# Altium footprint library SMD-SOTxx.PcbLib: 35 footprints (part 3 of 3)
Each footprint in its own frame and in the unit in brackets; x right, y up, seen from the top. Pads: shape width x height; smd on the part's side, far side on the other; paste and mask are expansions set on the pad; w line width, h text height; cw(c..) or ccw(c..) is an arc to the next point about the centre after c.
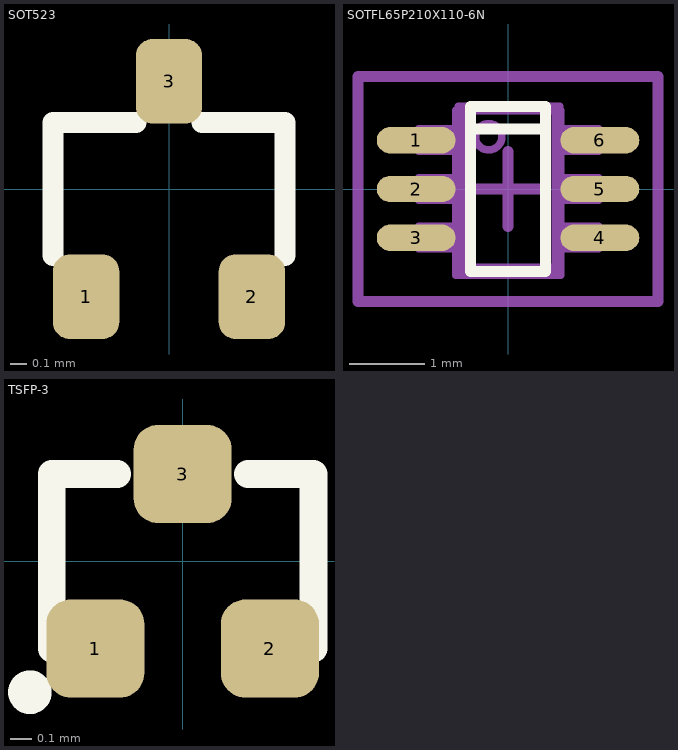
[diagram p2: the footprints below, top view; thin cyan lines are the x and y axes]

## SOT523 [mm] "SOT-323/SC-70; 3 Leads; Body 2.2 x 2.2 mm, inc. leads (LxW max)"
height 1
pads (3):
  rrect50% 0.4x0.51 smd: 1(-0.5,-0.65) 2(0.5,-0.65) 3(0,0.65)
Top Overlay:
  lines w0.127: -0.7,-0.4 -0.7,0.4 -0.2,0.4 ; 0.2,0.4 0.7,0.4 0.7,-0.4
3D body "SOT523.STEP": height 0.8, standoff 0, extent -0.8,-0.8 0.8,0.8

## SOTFL65P210X110-6N [mm] "SOTFL, 6-Leads, Body 2,00x2,10mm, Pitch 0,65mm, IPC Medium Density"
height 1.1
pads (6):
  oval 1.05x0.35 smd: 1(-1.225,0.65) 2(-1.225,0) 3(-1.225,-0.65) 4(1.225,-0.65) 5(1.225,0) 6(1.225,0.65)
Top Overlay:
  lines w0.15: -0.5,0.8 0.5,0.8 ; -0.5,-1.1 -0.5,1.1 0.5,1.1 0.5,-1.1 -0.5,-1.1
Mechanical 3:
  text ".Designator / .Comment" at -0.35,1 h0.5
Mechanical 13:
  circle w0.1: c-0.258,0.696 r0.175
  lines w0.1: -1.016,-0.799 -1.016,-0.499 ; -1.016,-0.799 -1.188,-0.799 -1.188,-0.499 -1.016,-0.499 ; -1.016,-0.799 -0.925,-0.799 ; -1.016,-0.499 -0.925,-0.499 ; -1.016,-0.149 -1.016,0.151 ; -1.016,-0.149 -1.188,-0.149 -1.188,0.151 -1.016,0.151 ; -1.016,-0.149 -0.925,-0.149 ; -1.016,0.151 -0.925,0.151 ; -1.016,0.501 -1.016,0.801 ; -1.016,0.501 -1.188,0.501 -1.188,0.801 -1.016,0.801 ; -1.016,0.501 -0.925,0.501 ; -1.016,0.801 -0.925,0.801 ; -0.925,-0.799 -0.925,-0.499 ; -0.925,-0.799 -0.913,-0.799 ; -0.925,-0.499 -0.913,-0.499 ; -0.925,-0.149 -0.925,0.151 ; -0.925,-0.149 -0.913,-0.149 ; -0.925,0.151 -0.913,0.151 ; -0.925,0.501 -0.925,0.801 ; -0.925,0.501 -0.913,0.501 ; -0.925,0.801 -0.913,0.801 ; -0.913,-0.799 -0.913,-0.499 ; -0.913,-0.799 -0.663,-0.799 ; -0.913,-0.499 -0.663,-0.499 ; -0.913,-0.149 -0.913,0.151 ; -0.913,-0.149 -0.663,-0.149 ; -0.913,0.151 -0.663,0.151 ; -0.913,0.501 -0.913,0.801 ; -0.913,0.501 -0.663,0.501 ; -0.913,0.801 -0.663,0.801 ; -0.663,-1.099 0.687,-1.099 ; -0.663,-1.099 -0.663,-0.799 ; -0.663,-1.099 -0.607,-1.042 ; -0.663,-0.799 -0.663,-0.499 ; -0.663,-0.799 -0.642,-0.799 -0.642,-0.499 -0.663,-0.499 ; -0.663,-0.499 -0.663,-0.149 ; -0.663,-0.149 -0.663,0.151 ; -0.663,-0.149 -0.642,-0.149 -0.642,0.151 -0.663,0.151 ; -0.663,0.151 -0.663,0.501 ; -0.663,0.501 -0.663,0.801 ; -0.663,0.501 -0.642,0.501 -0.642,0.801 -0.663,0.801 ; -0.663,0.801 -0.663,1.101 ; -0.663,1.101 0.687,1.101 ; -0.663,1.101 -0.607,1.045 ; -0.607,-1.042 0.631,-1.042 ; -0.607,-1.042 -0.607,1.045 ; -0.607,1.045 0.631,1.045 ; 0.631,-1.042 0.687,-1.099 ; 0.631,-1.042 0.631,1.045 ; 0.631,1.045 0.687,1.101 ; 0.687,-1.099 0.687,-0.799 ; 0.687,-0.799 0.687,-0.499 ; 0.687,-0.799 0.666,-0.799 0.666,-0.499 0.687,-0.499 ; 0.687,-0.799 0.937,-0.799 ; 0.687,-0.499 0.937,-0.499 ; 0.687,-0.499 0.687,-0.149 ; 0.687,-0.149 0.687,0.151 ; 0.687,-0.149 0.666,-0.149 0.666,0.151 0.687,0.151 ; 0.687,-0.149 0.937,-0.149 ; 0.687,0.151 0.937,0.151 ; 0.687,0.151 0.687,0.501 ; 0.687,0.501 0.687,0.801 ; 0.687,0.501 0.666,0.501 0.666,0.801 0.687,0.801 ; 0.687,0.501 0.937,0.501 ; 0.687,0.801 0.937,0.801 ; 0.687,0.801 0.687,1.101 ; 0.937,-0.799 0.937,-0.499 ; 0.937,-0.799 0.949,-0.799 ; 0.937,-0.499 0.949,-0.499 ; 0.937,-0.149 0.937,0.151 ; 0.937,-0.149 0.949,-0.149 ; 0.937,0.151 0.949,0.151 ; 0.937,0.501 0.937,0.801 ; 0.937,0.501 0.949,0.501 ; 0.937,0.801 0.949,0.801 ; 0.949,-0.799 0.949,-0.499 ; 0.949,-0.799 1.04,-0.799 ; 0.949,-0.499 1.04,-0.499 ; 0.949,-0.149 0.949,0.151 ; 0.949,-0.149 1.04,-0.149 ; 0.949,0.151 1.04,0.151 ; 0.949,0.501 0.949,0.801 ; 0.949,0.501 1.04,0.501 ; 0.949,0.801 1.04,0.801 ; 1.04,-0.799 1.04,-0.499 ; 1.04,-0.799 1.212,-0.799 1.212,-0.499 1.04,-0.499 ; 1.04,-0.149 1.04,0.151 ; 1.04,-0.149 1.212,-0.149 1.212,0.151 1.04,0.151 ; 1.04,0.501 1.04,0.801 ; 1.04,0.501 1.212,0.501 1.212,0.801 1.04,0.801 ; -0.7,-1.15 -0.7,1.05 0.7,1.05 0.7,-1.15 -0.7,-1.15
Mechanical 15:
  lines w0.15: -0.5,0 0.5,0 ; 0,-0.5 0,0.5 ; -2,-1.5 -2,1.5 2,1.5 2,-1.5 -2,-1.5
3D body "TSOP65P260X110-6N.step": height 1.1, standoff 0, extent -1.3,-1.1 1.3,1.1

## TSFP-3 [mm] "1.2x1.2mm"
height 1
pads (3):
  rrect50% 0.45x0.45 smd: 1(-0.4,-0.4) 2(0.4,-0.4) 3(0,0.4)
Top Overlay:
  circle w0.1: c-0.7,-0.6 r0.05
  lines w0.127: -0.6,-0.4 -0.6,0.4 -0.3,0.4 ; 0.3,0.4 0.6,0.4 0.6,-0.4